# Altium footprint library PCB Library.PcbLib: 13 footprints
Each footprint in its own frame and in the unit in brackets; x right, y up, seen from the top. Pads: shape width x height; smd on the part's side, far side on the other; paste and mask are expansions set on the pad; w line width, h text height; cw(c..) or ccw(c..) is an arc to the next point about the centre after c.
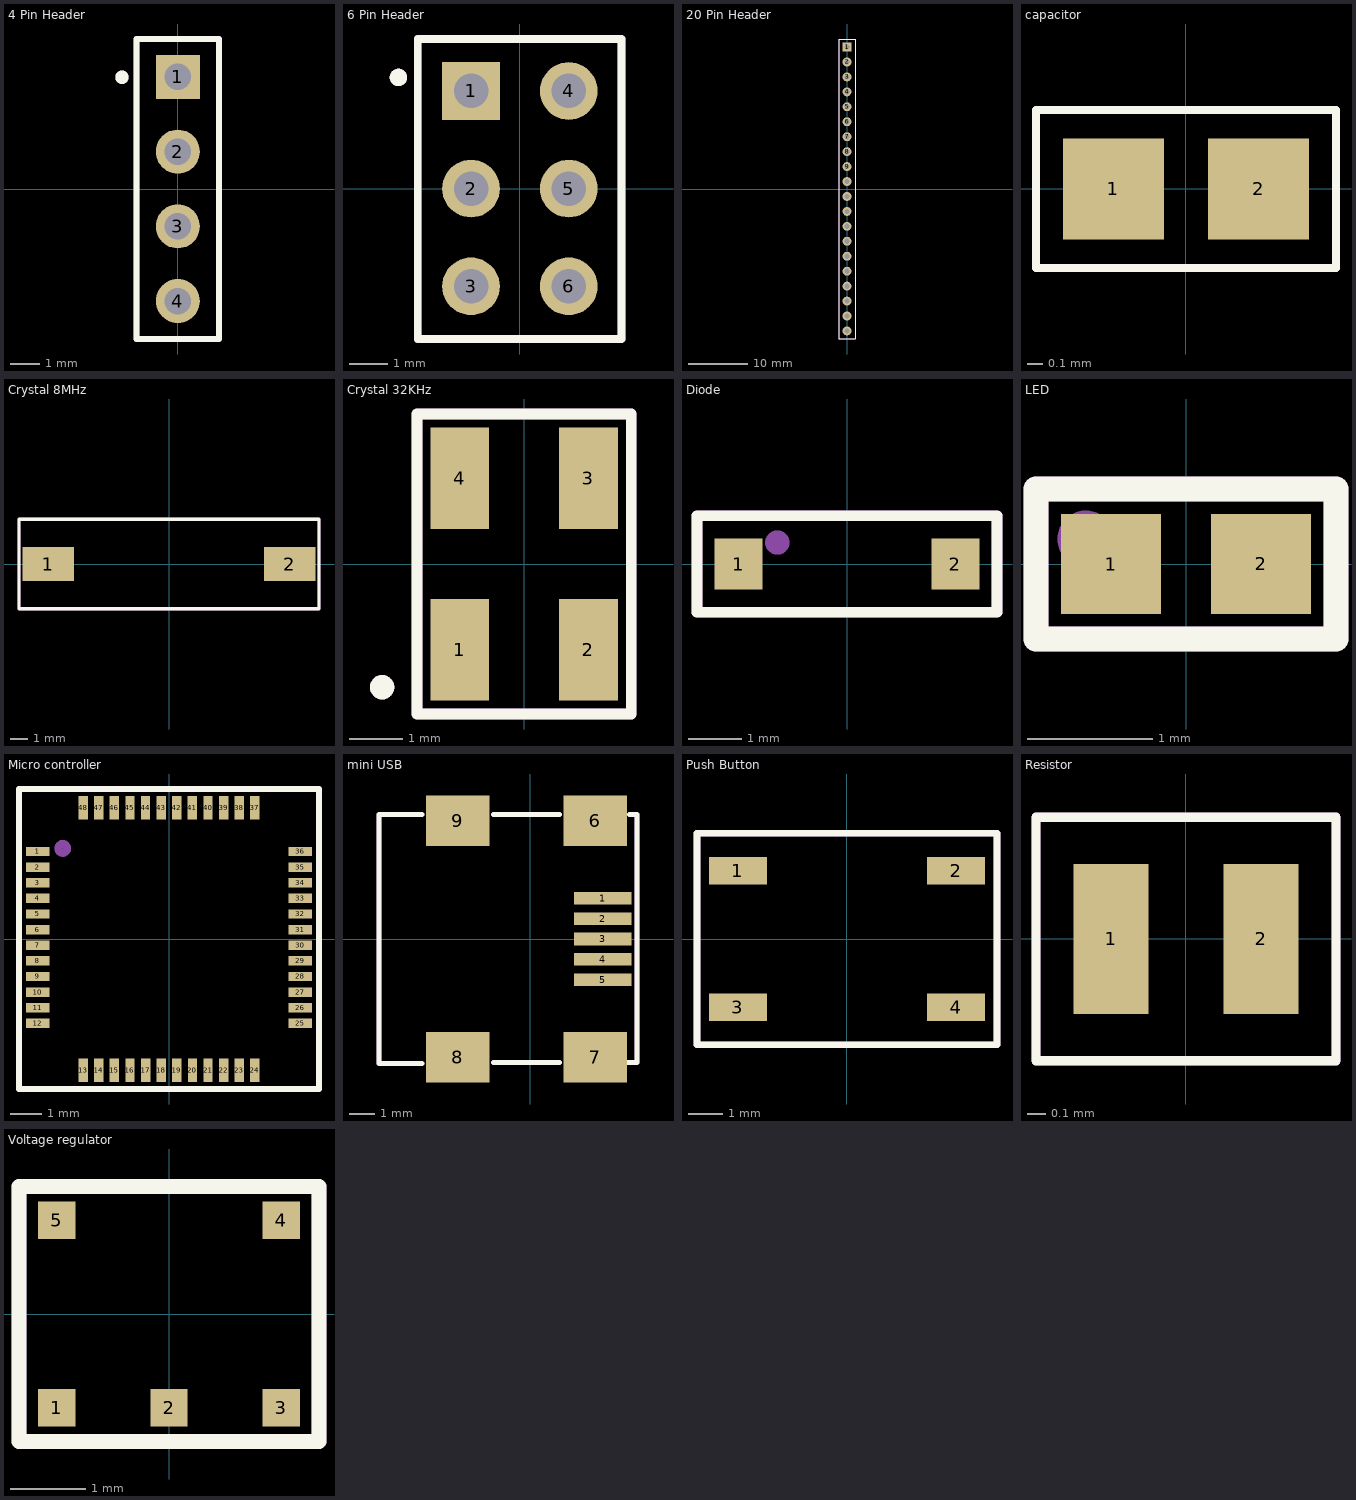
[diagram p0: the footprints below, top view; thin cyan lines are the x and y axes]

## 4 Pin Header [mm]
pads (4):
  rect 1.5x1.5 hole 0.9: 1(0,3.81)
  round 1.5 hole 0.9: 2(0,1.27) 3(0,-1.27) 4(0,-3.81)
Top Overlay:
  circle w0.254: c-1.9,3.8 r0.1
  lines w0.2: -1.4,-5.1 -1.4,5.1 1.4,5.1 1.4,-5.1 -1.4,-5.1
Assemble Layer:
  circle w0.254: c-1.9,3.8 r0.1
  lines w0.2: -1.4,-5.1 1.4,-5.1 1.4,5.1 -1.4,5.1 -1.4,-5.1
  text "'.Designator'" at 0.2,-3.1 h0.5
3D body "4 Header.stp": height 5.55, standoff -5.99, extent -1.27,-5.08 1.27,5.08

## 6 Pin Header [mm]
pads (6):
  rect 1.5x1.5 hole 0.9: 1(-1.27,2.54)
  round 1.5 hole 0.9: 2(-1.27,0) 3(-1.27,-2.54) 4(1.27,2.54) 5(1.27,0) 6(1.27,-2.54)
Top Overlay:
  circle w0.254: c-3.16,2.89 r0.1
  lines w0.2: -2.66,-3.91 2.64,-3.91 2.64,3.89 -2.66,3.89 -2.66,-3.91
Assemble Layer:
  circle w0.254: c-3.16,2.89 r0.1
  lines w0.2: -2.66,-3.91 -2.66,3.89 2.64,3.89 2.64,-3.91 -2.66,-3.91
  text "'.Designator'" at 0.37,-2.5 h0.5
3D body "3x3 Header.stp": height 5.55, standoff -5.99, extent -2.53,-3.82 2.55,3.8

## 20 Pin Header [mm]
pads (20):
  rect 1.5x1.5 hole 0.9: 1(0,24.13)
  round 1.5 hole 0.9: 2(0,21.59) 3(0,19.05) 4(0,16.51) 5(0,13.97) 6(0,11.43) 7(0,8.89) 8(0,6.35) 9(0,3.81) 10(0,1.27) 11(0,-1.27) 12(0,-3.81) 13(0,-6.35) 14(0,-8.89) 15(0,-11.43) 16(0,-13.97) 17(0,-16.51) 18(0,-19.05) 19(0,-21.59) 20(0,-24.13)
Top Overlay:
  lines w0.2: -1.4,-25.5 -1.4,25.5 1.4,25.5 1.4,-25.5 -1.4,-25.5
Assemble Layer:
  lines w0.2: -1.4,-25.5 1.4,-25.5 1.4,25.5 -1.4,25.5 -1.4,-25.5
  text "'.Designator'" at 0.2,-3.1 h0.5
3D body "20x1 Header.stp": height 5.55, standoff -5.99, extent -1.27,-25.4 1.27,25.4

## capacitor [mm]
height 0.88
pads (2):
  rect 0.64x0.64 smd: 1(-0.46,0) 2(0.46,0)
Top Overlay:
  lines w0.05: -0.95,-0.5 -0.95,0.5 0.95,0.5 0.95,-0.5 -0.95,-0.5
Assemble Layer:
  lines w0.05: -0.95,-0.5 0.95,-0.5 0.95,0.5 -0.95,0.5 -0.95,-0.5
  text "'.Designator'" at -0.8,-0.3 h0.5
3D body "Chip2PinSM127P600-8N.step": height 0.88, standoff 0, extent -0.55,-0.3 0.55,0.3

## Crystal 8MHz [mm]
pads (2):
  rect 3x2 smd: 1(-7,0) 2(7,0)
Top Overlay:
  lines w0.2: -8.7,-2.6 8.7,-2.6 8.7,2.6 -8.7,2.6 -8.7,-2.6
Assemble Layer:
  lines w0.2: -8.7,-2.6 -8.7,2.6 8.7,2.6 8.7,-2.6 -8.7,-2.6
  text "'.Designator'" at -2.4,-0.4 h0.5
3D body "Crystal 8MHz.STEP": height 4.31, standoff 0.01, extent -6.6,-2.4 6.6,2.4

## Crystal 32KHz [mm]
height 0.9
pads (4):
  rect 1.1x1.9 smd: 1(-1.2,-1.6) 2(1.2,-1.6) 3(1.2,1.6) 4(-1.2,1.6)
Top Overlay:
  circle w0.254: c-2.65,-2.3 r0.1
  lines w0.2: -2,-2.8 2,-2.8 2,2.8 -2,2.8 -2,-2.8
Assemble Layer:
  circle w0.254: c-2.65,-2.3 r0.1
  lines w0.2: -2,-2.8 -2,2.8 2,2.8 2,-2.8 -2,-2.8
  text "'.Designator'" at -1.3,-0.3 h0.5
3D body: height 0.9, standoff 0, extent -2,-2.8 2,2.8

## Diode [mm]
pads (2):
  rect 0.9x0.95 smd: 1(-2.025,0) 2(2.025,0)
Top Overlay:
  lines w0.2: -2.8,-0.9 2.8,-0.9 2.8,0.9 -2.8,0.9 -2.8,-0.9
Assemble Layer:
  circle w0.254: c-1.3,0.4 r0.1
  lines w0.2: -2.8,-0.9 -2.8,0.9 2.8,0.9 2.8,-0.9 -2.8,-0.9
  text "'.Designator'" at -1,-0.3 h0.5
3D body "SOD123_DIO-L.step": height 0.81, standoff 0, extent -1.925,-0.675 1.925,0.675

## LED [mm]
pads (2):
  rect 0.8x0.8 smd: 1(-0.6,0) 2(0.6,0)
Top Overlay:
  lines w0.2: -1.2,-0.6 1.2,-0.6 1.2,0.6 -1.2,0.6 -1.2,-0.6
Assemble Layer:
  circle w0.254: c-0.8,0.2 r0.1
  lines w0.2: -1.2,-0.6 -1.2,0.6 1.2,0.6 1.2,-0.6 -1.2,-0.6
  text "'.Designator'" at -0.5,-0.3 h0.5
3D body "LED.STEP": height 0.54, standoff -0.01, extent -0.8,-0.4 0.8,0.4

## Micro controller [mm] "CQFP, 48-Leads, Body 33.75x33.75mm, Pitch 0.64mm, IPC Medium Density"
height 3.1
pads (48):
  rect 0.75x0.3 smd: 1(-4.2,2.8) 2(-4.2,2.3) 3(-4.2,1.8) 4(-4.2,1.3) 5(-4.2,0.8) 6(-4.2,0.3) 7(-4.2,-0.2) 8(-4.2,-0.7) 9(-4.2,-1.2) 10(-4.2,-1.7) 11(-4.2,-2.2) 12(-4.2,-2.7) 25(4.2,-2.7) 26(4.2,-2.2) 27(4.2,-1.7) 28(4.2,-1.2) 29(4.2,-0.7) 30(4.2,-0.2) 31(4.2,0.3) 32(4.2,0.8) 33(4.2,1.3) 34(4.2,1.8) 35(4.2,2.3) 36(4.2,2.8)
  rect 0.3x0.75 smd: 13(-2.75,-4.2) 14(-2.25,-4.2) 15(-1.75,-4.2) 16(-1.25,-4.2) 17(-0.75,-4.2) 18(-0.25,-4.2) 19(0.25,-4.2) 20(0.75,-4.2) 21(1.25,-4.2) 22(1.75,-4.2) 23(2.25,-4.2) 24(2.75,-4.2) 37(2.75,4.2) 38(2.25,4.2) 39(1.75,4.2) 40(1.25,4.2) 41(0.75,4.2) 42(0.25,4.2) 43(-0.25,4.2) 44(-0.75,4.2) 45(-1.25,4.2) 46(-1.75,4.2) 47(-2.25,4.2) 48(-2.75,4.2)
Top Overlay:
  lines w0.2: -4.8,-4.8 4.8,-4.8 4.8,4.8 -4.8,4.8 -4.8,-4.8
Assemble Layer:
  circle w0.254: c-3.4,2.9 r0.141
  lines w0.2: -4.8,-4.8 -4.8,4.8 4.8,4.8 4.8,-4.8 -4.8,-4.8
  text "'.Designator'" at -2.6,-0.1 h0.5
3D body "MicroController.STEP": height 1.46, standoff -0.14, extent -4.5,-4.45 4.5,4.55

## mini USB [mm]
pads (9):
  rect 2.25x0.5 smd: 1(2.85,1.6) 2(2.85,0.8) 3(2.85,0) 4(2.85,-0.8) 5(2.85,-1.6)
  rect 2.5x2 smd: 6(2.55,4.65) 7(2.55,-4.65) 8(-2.85,-4.65) 9(-2.85,4.65)
Top Overlay:
  lines w0.2: -4.25,-4.9 -5.95,-4.9 -5.95,4.9 -4.25,4.9 ; -1.45,-4.85 1.15,-4.85 ; -1.45,4.9 1.15,4.9 ; 3.85,-4.85 4.2,-4.85 4.2,4.9 3.9,4.9
Assemble Layer:
  lines w0.2: -4.25,-4.9 -5.95,-4.9 -5.95,4.9 -4.25,4.9 ; -1.45,-4.85 1.15,-4.85 ; -1.45,4.9 1.15,4.9 ; 3.85,-4.85 4.2,-4.85 4.2,4.9 3.9,4.9
  text "'.Designator'" at -5.75,0.1 h0.5
3D body "Mini USB.stp": height 3.91, standoff -0.99, extent -5.875,-4.8 3.375,4.8

## Push Button [mm]
pads (4):
  rect 1.7x0.8 smd: 1(-3.2,2) 2(3.2,2) 3(-3.2,-2) 4(3.2,-2)
Top Overlay:
  lines w0.2: -4.4,-3.1 -4.4,3.1 4.4,3.1 4.4,-3.1 -4.4,-3.1
Assemble Layer:
  lines w0.2: -4.4,-3.1 -4.4,3.1 4.4,3.1 4.4,-3.1 -4.4,-3.1
  text "'.Designator'" at -2.5,-0.233 h0.5
3D body "Push Button.stp": height 3.1, standoff 0, extent -4,-3.1 4,3.1

## Resistor [mm]
height 0.55
pads (2):
  rect 0.4x0.8 smd: 1(-0.4,0) 2(0.4,0)
Top Overlay:
  lines w0.05: -0.8,-0.65 0.8,-0.65 0.8,0.65 -0.8,0.65 -0.8,-0.65
Assemble Layer:
  lines w0.05: -0.8,-0.65 -0.8,0.65 0.8,0.65 0.8,-0.65 -0.8,-0.65
  text "'.Designator'" at -0.5,-0.3 h0.5
3D body "Resistor.step": height 0.55, standoff 0, extent -0.55,-0.3 0.55,0.3

## Voltage regulator [mm]
pads (5):
  rect 0.5x0.5 smd: 1(-1.5,-1.25) 2(0,-1.25) 3(1.5,-1.25) 4(1.5,1.25) 5(-1.5,1.25)
Top Overlay:
  lines w0.2: -2,-1.7 2,-1.7 2,1.7 -2,1.7 -2,-1.7
Assemble Layer:
  lines w0.2: -2,-1.7 -2,1.7 2,1.7 2,-1.7 -2,-1.7
  text "'.Designator'" at -1.3,-0.1 h0.5
3D body: height 0.81, standoff 0, extent -1.9,-1.6 1.9,1.6